# Altium schematic symbol library led2.SchLib: 14 symbols
Pins are listed as number, name and electrical type; pins without a type are passive.

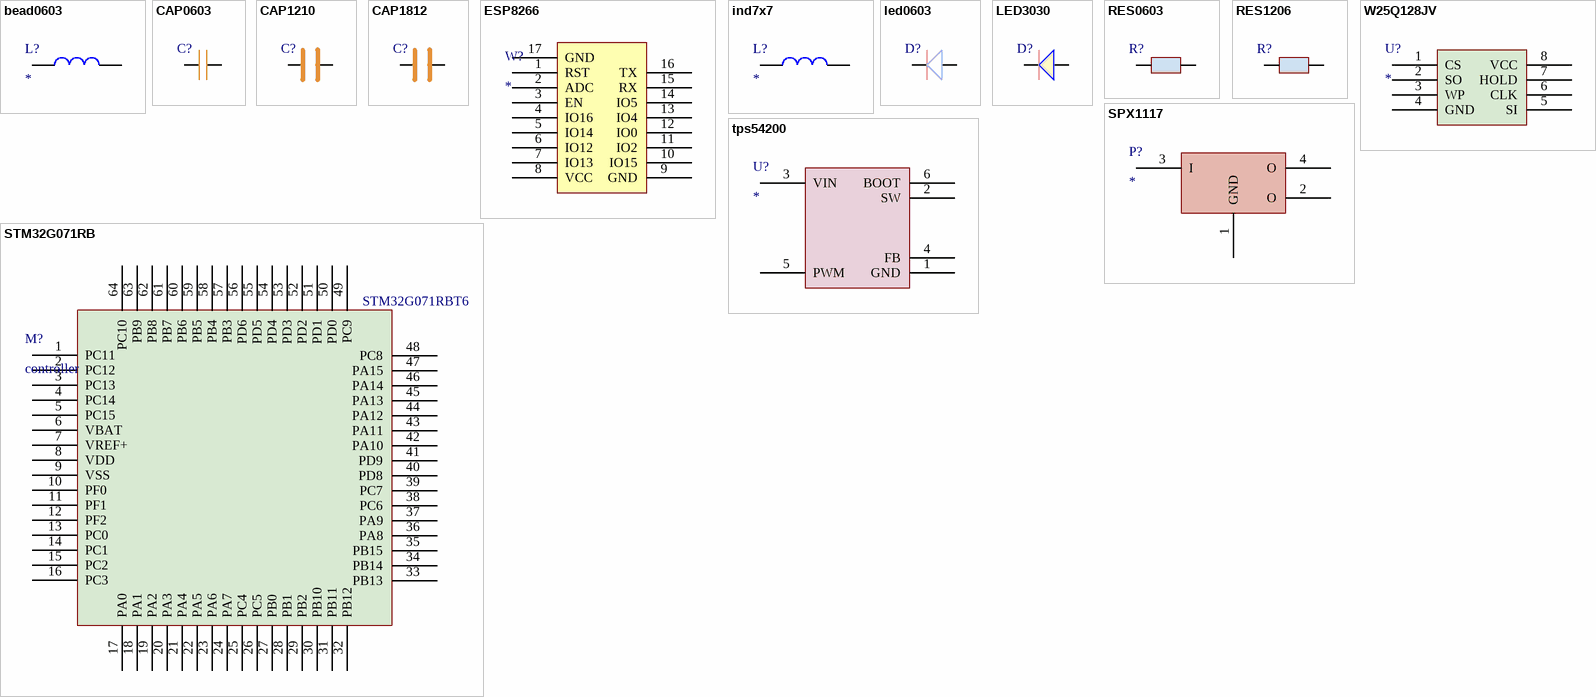
[diagram p0: symbols bead0603 to W25Q128JV]

## bead0603
designator L?
a bead
footprint bead0603
pins: 1, 2

## CAP0603
designator C?  (value not drawn)
CAP0603
footprint CAP0603
pins: 1, 2

## CAP1210
designator C?  (value not drawn)
CAP1210
footprint cap1210
pins: 1, 2

## CAP1812
designator C?  (value not drawn)
CAP1812
footprint cap1812
pins: 1, 2

## ESP8266
designator W?
footprint ESP-12S
pins: 1 RST, 2 ADC, 3 EN, 4 IO16, 5 IO14, 6 IO12, 7 IO13, 8 VCC, 9 GND, 10 IO15, 11 IO2, 12 IO0, 13 IO4, 14 IO5, 15 RX, 16 TX, 17 GND

## ind7x7
designator L?
a ind
footprint Inductor7x7
pins: 1, 2

## led0603
designator D?  (value not drawn)
LED0603
footprint led0603
pins: 1, 2

## LED3030
designator D?  (value not drawn)
LEd3030
footprint LED3030
pins: 1, 2

## RES0603
designator R?  (value not drawn)
RES0603
footprint res0603
pins: 1, 2

## RES1206
designator R?  (value not drawn)
RES1206
footprint res1206
pins: 1, 2

## SPX1117
designator P?
LDO --> 3.3
footprint 1117
pins: 1 GND, 2 O, 3 I, 4 O

## STM32G071RB
designator M?, comment controller  Manufacturer Part Number: STM32G071RBT6
STM32G071RB; Manufacturer: STMicroelectronics; Supplier 1: Digi-Key; Stock 1: 974; Pricing 1: 1=3.13000, 10=2.80700, 160=2.29981, 640=1.95780, 1120=1.65116 (USD); ComponentLink1URL: https://media.digikey.com/pdf/Data%20Sheets/ST%20Microelectronics%20PDFS/STM32G071_Rev1_DS.pdf?src-supplier=Digi-Key; ComponentLink1Description: https://media.digikey.com/pdf/Data%20Sheets/ST%20Microelectronics%20PDFS/STM32G071_Rev1_DS.pdf?src-supplier=Digi-Key; ComponentLink2URL: http://datasheet.octopart.com/STM32G071RBT6-STMicroelectronics-datasheet-120241066.pdf?src-supplier=Future+Electronics; ComponentLink2Description: http://datasheet.octopart.com/STM32G071RBT6-STMicroelectronics-datasheet-120241066.pdf?src-supplier=Future+Electronics; ComponentLink3URL: http://datasheet.octopart.com/STM32G071RBT6-STMicroelectronics-datasheet-127822703.pdf?src-supplier=Future+Electronics; ComponentLink3Description: http://datasheet.octopart.com/STM32G071RBT6-STMicroelectronics-datasheet-127822703.pdf?src-supplier=Future+Electronics; ComponentLink4URL: http://datasheet.octopart.com/STM32G071RBT6-STMicroelectronics-datasheet-130125765.pdf?src-supplier=TME; ComponentLink4Description: http://datasheet.octopart.com/STM32G071RBT6-STMicroelectronics-datasheet-130125765.pdf?src-supplier=TME; Supplier Part Number 1: 497-18341-ND
footprint STM32G071RB
pins: 1 PC11, 2 PC12, 3 PC13, 4 PC14, 5 PC15, 6 VBAT, 7 VREF+, 8 VDD, 9 VSS, 10 PF0, 11 PF1, 12 PF2, 13 PC0, 14 PC1, 15 PC2, 16 PC3, 17 PA0, 18 PA1, 19 PA2, 20 PA3, 21 PA4, 22 PA5, 23 PA6, 24 PA7, 25 PC4, 26 PC5, 27 PB0, 28 PB1, 29 PB2, 30 PB10, 31 PB11, 32 PB12, 33 PB13, 34 PB14, 35 PB15, 36 PA8, 37 PA9, 38 PC6, 39 PC7, 40 PD8, 41 PD9, 42 PA10, 43 PA11, 44 PA12, 45 PA13, 46 PA14, 47 PA15, 48 PC8, 49 PC9, 50 PD0, 51 PD1, 52 PD2, 53 PD3, 54 PD4, 55 PD5, 56 PD6, 57 PB3, 58 PB4, 59 PB5, 60 PB6, 61 PB7, 62 PB8, 63 PB9, 64 PC10

## tps54200
designator U?
footprint TPS54200 (SOT23, 6-Leads, Body 2.90x2.80mm, Pitch 0.95mm, IPC Medium Density)
pins: 1 GND, 2 SW, 3 VIN, 4 FB, 5 PWM, 6 BOOT

## W25Q128JV
designator U?
footprint W25Q128 (SOIC, 8-Leads, Body 5.23x5.23mm, Pitch 1.27mm, IPC Medium Density)
pins: 1 CS, 2 SO, 3 WP, 4 GND, 5 SI, 6 CLK, 7 HOLD, 8 VCC